# EAGLE library part MCP1640 (library SmallRoomLabs)
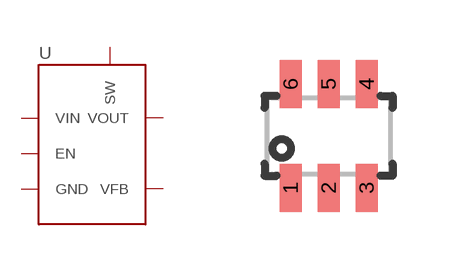
[diagram p2: symbol with the pads of SOT23-6; footprint SOT23-6]

Designator prefix -

## MCP1640SOT23-6  [SOT23-6]
1  SW
2  GND
3  EN
4  VFB
5  VOUT
6  VIN

## Footprint SOT23-6 (pad centres in mm)
smd 0.55 x 1.2: 1 0.32,-1.3; 2 1.27,-1.3; 3 2.22,-1.3; 4 2.22,1.3; 5 1.27,1.3; 6 0.32,1.3